# Altium footprint library IC_MCU.PcbLib: 10 footprints
Each footprint in its own frame and in the unit in brackets; x right, y up, seen from the top. Pads: shape width x height; smd on the part's side, far side on the other; paste and mask are expansions set on the pad; w line width, h text height; cw(c..) or ccw(c..) is an arc to the next point about the centre after c.
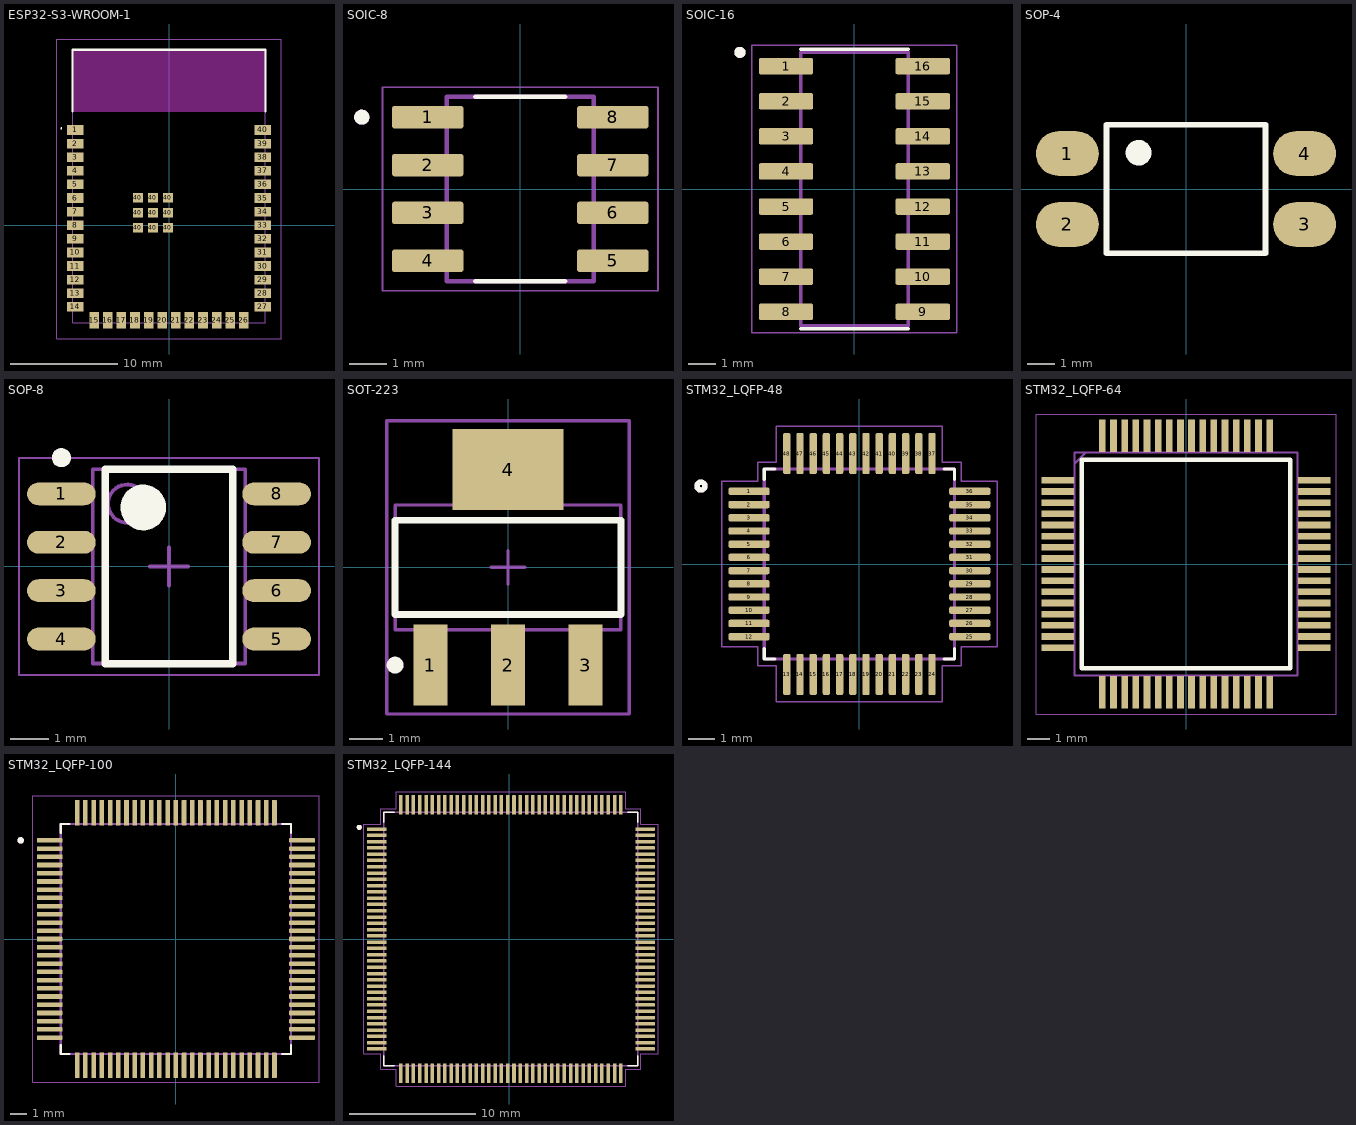
[diagram p0: the footprints below, top view; thin cyan lines are the x and y axes]

## ESP32-S3-WROOM-1 [mm]
pads (49):
  rect 1.5x0.9 smd: 1(-8.75,8.88) 2(-8.75,7.61) 3(-8.75,6.34) 4(-8.75,5.07) 5(-8.75,3.8) 6(-8.75,2.53) 7(-8.75,1.26) 8(-8.75,-0.01) 9(-8.75,-1.28) 10(-8.75,-2.55) 11(-8.75,-3.82) 12(-8.75,-5.09) 13(-8.75,-6.36) 14(-8.75,-7.63) 27(8.75,-7.63) 28(8.75,-6.36) 29(8.75,-5.09) 30(8.75,-3.82) 31(8.75,-2.55) 32(8.75,-1.28) 33(8.75,-0.01) 34(8.75,1.26) 35(8.75,2.53) 36(8.75,3.8) 37(8.75,5.07) 38(8.75,6.34) 39(8.75,7.61) 40(8.75,8.88)
  rect 0.9x1.5 smd: 15(-6.985,-8.88) 16(-5.715,-8.88) 17(-4.445,-8.88) 18(-3.175,-8.88) 19(-1.905,-8.88) 20(-0.635,-8.88) 21(0.635,-8.88) 22(1.905,-8.88) 23(3.175,-8.88) 24(4.445,-8.88) 25(5.715,-8.88) 26(6.985,-8.88)
  rect 0.9x0.9 smd: 40(-2.9,-0.24) 40(-2.9,1.16) 40(-2.9,2.56) 40(-1.5,-0.24) 40(-1.5,1.16) 40(-1.5,2.56) 40(-0.1,-0.24) 40(-0.1,1.16) 40(-0.1,2.56)
Top Layer keep-out:
  rectangle: -9.017,10.541 9.017,16.383
Top Overlay:
  lines w0.1: -10.1,9.02 cw(c-10.05,9.02) -10,9.02 cw(c-10.05,9.02) -10.1,9.02
  lines w0.2: -9,10.62 -9,16.37 9,16.37 9,10.62
Mechanical 13:
  lines w0.1: -10.5,-10.63 10.5,-10.63 10.5,17.37 -10.5,17.37 -10.5,-10.63 ; -9,-9.13 9,-9.13 9,16.37 -9,16.37 -9,-9.13
3D body "step_temp.STEP": height 3.25, standoff 0, extent -9,-9.13 9,16.37

## SOIC-8 [mm]
pads (8):
  rrect25% 1.9x0.6 smd: 1(-2.455,1.905) 2(-2.455,0.635) 3(-2.455,-0.635) 4(-2.455,-1.905) 5(2.455,-1.905) 6(2.455,-0.635) 7(2.455,0.635) 8(2.455,1.905)
Top Overlay:
  circle w0.2: c-4.205,1.905 r0.1
  lines w0.127: -1.185,-2.45 1.185,-2.45 ; -1.185,2.45 1.185,2.45
Mechanical 13:
  circle w0.2: c-4.205,1.905 r0.1
  lines w0.127: -1.95,-2.45 1.95,-2.45 1.95,2.45 -1.95,2.45 -1.95,-2.45
Mechanical 15:
  lines w0.05: -3.655,-2.7 -3.655,2.7 3.655,2.7 3.655,-2.7 -3.655,-2.7
3D body "step_temp.STEP": height 1.75, standoff 0, extent -3,-2.45 3,2.45

## SOIC-16 [mm]
pads (16):
  rrect25% 1.97x0.6 smd: 1(-2.475,4.445) 2(-2.475,3.175) 3(-2.475,1.905) 4(-2.475,0.635) 5(-2.475,-0.635) 6(-2.475,-1.905) 7(-2.475,-3.175) 8(-2.475,-4.445) 9(2.475,-4.445) 10(2.475,-3.175) 11(2.475,-1.905) 12(2.475,-0.635) 13(2.475,0.635) 14(2.475,1.905) 15(2.475,3.175) 16(2.475,4.445)
Top Overlay:
  circle w0.2: c-4.145,4.945 r0.1
  lines w0.127: -1.95,-5.065 1.95,-5.065 ; -1.95,5.065 1.95,5.065
Mechanical 13:
  circle w0.2: c-4.145,4.945 r0.1
  lines w0.127: -1.95,-4.95 1.95,-4.95 1.95,4.95 -1.95,4.95 -1.95,-4.95
Mechanical 15:
  lines w0.05: -3.71,-5.2 3.71,-5.2 3.71,5.2 -3.71,5.2 -3.71,-5.2
3D body "step_temp.STEP": height 1.75, standoff 0, extent -3,-4.95 3,4.95

## SOP-4 [mm]
pads (4):
  oval 2.25x1.6 smd: 1(-4.25,1.27) 2(-4.25,-1.27) 3(4.25,-1.27) 4(4.25,1.27)
Top Overlay:
  circle w0.2: c-1.7,1.3 r0.361
  region: -1.4,1.003 -2.006,1.003 -2.006,1.6 -1.4,1.6
  lines w0.2: -2.85,-2.3 -2.85,2.3 2.85,2.3 2.85,-2.3 -2.85,-2.3
3D body "pc817x1nip1b.stp": height 3.6, standoff 0, extent -4.673,-2.286 4.927,2.314

## SOP-8 [mm]
pads (8):
  oval 1.8x0.6 smd: 1(-2.825,1.905) 2(-2.825,0.635) 3(-2.825,-0.635) 4(-2.825,-1.905) 5(2.825,-1.905) 6(2.825,-0.635) 7(2.825,0.635) 8(2.825,1.905)
Top Overlay:
  circle w0.6: c-0.675,1.55 r0.3
  circle w0.25: c-2.825,2.855 r0.125
  lines w0.2: -1.675,-2.55 1.675,-2.55 1.675,2.55 -1.675,2.55 -1.675,-2.55
Mechanical 13:
  circle w0.1: c-1.1,1.65 r0.5
  lines w0.1: -2,-2.55 2,-2.55 2,2.55 -2,2.55 -2,-2.55
Mechanical 15:
  lines w0.05: -3.937,-2.85 3.937,-2.85 3.937,2.85 -3.937,2.85 -3.937,-2.85
  lines w0.1: -0.5,0 0.5,0 ; 0,-0.5 0,0.5
3D body "CircuitWorks-SO-8 (PIC12FXXX).step": height 1.6, standoff 0, extent -2.995,-2.45 2.995,2.45

## SOT-223 [mm]
pads (4):
  rect 1x2.4 smd: 1(-2.3,-2.9) 2(0,-2.9) 3(2.3,-2.9)
  rect 3.3x2.4 smd: 4(0,2.9)
Top Overlay:
  circle w0.25: c-3.35,-2.9 r0.125
  lines w0.2: -3.35,-1.4 3.35,-1.4 3.35,1.4 -3.35,1.4 -3.35,-1.4
Mechanical 13:
  lines w0.1: -3.35,-1.85 3.35,-1.85 3.35,1.85 -3.35,1.85 -3.35,-1.85
Mechanical 15:
  lines w0.1: -0.5,0 0.5,0 ; 0,-0.5 0,0.5 ; -3.6,-4.35 3.6,-4.35 3.6,4.35 -3.6,4.35 -3.6,-4.35
3D body "SW3DPS-SOT-223-DEFAULT.step": height 1.68, standoff 0, extent -3.25,-3.556 3.25,3.404

## STM32_LQFP-48 [mm]
pads (48):
  rrect50% 1.56x0.28 smd: 1(-4.18,2.75) 2(-4.18,2.25) 3(-4.18,1.75) 4(-4.18,1.25) 5(-4.18,0.75) 6(-4.18,0.25) 7(-4.18,-0.25) 8(-4.18,-0.75) 9(-4.18,-1.25) 10(-4.18,-1.75) 11(-4.18,-2.25) 12(-4.18,-2.75) 25(4.18,-2.75) 26(4.18,-2.25) 27(4.18,-1.75) 28(4.18,-1.25) 29(4.18,-0.75) 30(4.18,-0.25) 31(4.18,0.25) 32(4.18,0.75) 33(4.18,1.25) 34(4.18,1.75) 35(4.18,2.25) 36(4.18,2.75)
  rrect50% 0.28x1.56 smd: 13(-2.75,-4.18) 14(-2.25,-4.18) 15(-1.75,-4.18) 16(-1.25,-4.18) 17(-0.75,-4.18) 18(-0.25,-4.18) 19(0.25,-4.18) 20(0.75,-4.18) 21(1.25,-4.18) 22(1.75,-4.18) 23(2.25,-4.18) 24(2.75,-4.18) 37(2.75,4.18) 38(2.25,4.18) 39(1.75,4.18) 40(1.25,4.18) 41(0.75,4.18) 42(0.25,4.18) 43(-0.25,4.18) 44(-0.75,4.18) 45(-1.25,4.18) 46(-1.75,4.18) 47(-2.25,4.18) 48(-2.75,4.18)
Top Overlay:
  circle w0.2: c-6,2.95 r0.15
  lines w0.127: -3.6,-3.21 -3.6,-3.6 -3.21,-3.6 ; -3.6,3.21 -3.6,3.6 -3.21,3.6 ; 3.21,-3.6 3.6,-3.6 3.6,-3.21 ; 3.21,3.6 3.6,3.6 3.6,3.21
Mechanical 13:
  circle w0.2: c-6,2.95 r0.15
  lines w0.127: -3.6,-3.6 -3.6,3.6 3.6,3.6 3.6,-3.6 -3.6,-3.6
Mechanical 15:
  lines w0.05: -5.21,-3.14 -5.21,3.14 -3.85,3.14 -3.85,3.85 -3.14,3.85 -3.14,5.21 3.14,5.21 3.14,3.85 3.85,3.85 3.85,3.14 5.21,3.14 5.21,-3.14 3.85,-3.14 3.85,-3.85 3.14,-3.85 3.14,-5.21 -3.14,-5.21 -3.14,-3.85 -3.85,-3.85 -3.85,-3.14 -5.21,-3.14
3D body "step_temp.STEP": height 1.6, standoff 0, extent -4.5,-4.5 4.5,4.5

## STM32_LQFP-64 [mm]
pads (64):
  rect 1.45x0.3 smd: 1(-5.75,3.75) 2(-5.75,3.25) 3(-5.75,2.75) 4(-5.75,2.25) 5(-5.75,1.75) 6(-5.75,1.25) 7(-5.75,0.75) 8(-5.75,0.25) 9(-5.75,-0.25) 10(-5.75,-0.75) 11(-5.75,-1.25) 12(-5.75,-1.75) 13(-5.75,-2.25) 14(-5.75,-2.75) 15(-5.75,-3.25) 16(-5.75,-3.75) 33(5.75,-3.75) 34(5.75,-3.25) 35(5.75,-2.75) 36(5.75,-2.25) 37(5.75,-1.75) 38(5.75,-1.25) 39(5.75,-0.75) 40(5.75,-0.25) 41(5.75,0.25) 42(5.75,0.75) 43(5.75,1.25) 44(5.75,1.75) 45(5.75,2.25) 46(5.75,2.75) 47(5.75,3.25) 48(5.75,3.75)
  rect 0.3x1.45 smd: 17(-3.75,-5.75) 18(-3.25,-5.75) 19(-2.75,-5.75) 20(-2.25,-5.75) 21(-1.75,-5.75) 22(-1.25,-5.75) 23(-0.75,-5.75) 24(-0.25,-5.75) 25(0.25,-5.75) 26(0.75,-5.75) 27(1.25,-5.75) 28(1.75,-5.75) 29(2.25,-5.75) 30(2.75,-5.75) 31(3.25,-5.75) 32(3.75,-5.75) 49(3.75,5.75) 50(3.25,5.75) 51(2.75,5.75) 52(2.25,5.75) 53(1.75,5.75) 54(1.25,5.75) 55(0.75,5.75) 56(0.25,5.75) 57(-0.25,5.75) 58(-0.75,5.75) 59(-1.25,5.75) 60(-1.75,5.75) 61(-2.25,5.75) 62(-2.75,5.75) 63(-3.25,5.75) 64(-3.75,5.75)
Top Overlay:
  lines w0.2: -4.675,-4.675 -4.675,4.675 4.675,4.675 4.675,-4.675 -4.675,-4.675
Mechanical 13:
  lines w0.05: -6.725,-6.725 -6.725,6.725 6.725,6.725 6.725,-6.725 -6.725,-6.725
  lines w0.1: -5,4.5 -4.5,5 ; -5,-5 -5,5 5,5 5,-5 -5,-5
3D body "step_temp.STEP": height 1.61, standoff 0.01, extent -6,-6 6,6

## STM32_LQFP-100 [mm]
pads (100):
  rrect25% 1.56x0.28 smd: 1(-7.68,6) 2(-7.68,5.5) 3(-7.68,5) 4(-7.68,4.5) 5(-7.68,4) 6(-7.68,3.5) 7(-7.68,3) 8(-7.68,2.5) 9(-7.68,2) 10(-7.68,1.5) 11(-7.68,1) 12(-7.68,0.5) 13(-7.68,0) 14(-7.68,-0.5) 15(-7.68,-1) 16(-7.68,-1.5) 17(-7.68,-2) 18(-7.68,-2.5) 19(-7.68,-3) 20(-7.68,-3.5) 21(-7.68,-4) 22(-7.68,-4.5) 23(-7.68,-5) 24(-7.68,-5.5) 25(-7.68,-6) 51(7.68,-6) 52(7.68,-5.5) 53(7.68,-5) 54(7.68,-4.5) 55(7.68,-4) 56(7.68,-3.5) 57(7.68,-3) 58(7.68,-2.5) 59(7.68,-2) 60(7.68,-1.5) 61(7.68,-1) 62(7.68,-0.5) 63(7.68,0) 64(7.68,0.5) 65(7.68,1) 66(7.68,1.5) 67(7.68,2) 68(7.68,2.5) 69(7.68,3) 70(7.68,3.5) 71(7.68,4) 72(7.68,4.5) 73(7.68,5) 74(7.68,5.5) 75(7.68,6)
  rrect25% 0.28x1.56 smd: 26(-6,-7.68) 27(-5.5,-7.68) 28(-5,-7.68) 29(-4.5,-7.68) 30(-4,-7.68) 31(-3.5,-7.68) 32(-3,-7.68) 33(-2.5,-7.68) 34(-2,-7.68) 35(-1.5,-7.68) 36(-1,-7.68) 37(-0.5,-7.68) 38(0,-7.68) 39(0.5,-7.68) 40(1,-7.68) 41(1.5,-7.68) 42(2,-7.68) 43(2.5,-7.68) 44(3,-7.68) 45(3.5,-7.68) 46(4,-7.68) 47(4.5,-7.68) 48(5,-7.68) 49(5.5,-7.68) 50(6,-7.68) 76(6,7.68) 77(5.5,7.68) 78(5,7.68) 79(4.5,7.68) 80(4,7.68) 81(3.5,7.68) 82(3,7.68) 83(2.5,7.68) 84(2,7.68) 85(1.5,7.68) 86(1,7.68) 87(0.5,7.68) 88(0,7.68) 89(-0.5,7.68) 90(-1,7.68) 91(-1.5,7.68) 92(-2,7.68) 93(-2.5,7.68) 94(-3,7.68) 95(-3.5,7.68) 96(-4,7.68) 97(-4.5,7.68) 98(-5,7.68) 99(-5.5,7.68) 100(-6,7.68)
Top Overlay:
  circle w0.2: c-9.44,6 r0.1
  lines w0.127: -7,-6.46 -7,-7 -6.46,-7 ; -7,6.46 -7,7 -6.46,7 ; 6.46,-7 7,-7 7,-6.46 ; 6.46,7 7,7 7,6.46
Mechanical 13:
  circle w0.2: c-9.44,6 r0.1
  lines w0.127: -7,-7 -7,7 7,7 7,-7 -7,-7
Mechanical 15:
  lines w0.05: -8.71,-8.71 -8.71,8.71 8.71,8.71 8.71,-8.71 -8.71,-8.71
3D body "step_temp.STEP": height 1.6, standoff 0, extent -8,-8 8,8

## STM32_LQFP-144 [mm]
pads (144):
  rrect25% 1.56x0.28 smd: 1(-10.553,8.75) 2(-10.553,8.25) 3(-10.553,7.75) 4(-10.553,7.25) 5(-10.553,6.75) 6(-10.553,6.25) 7(-10.553,5.75) 8(-10.553,5.25) 9(-10.553,4.75) 10(-10.553,4.25) 11(-10.553,3.75) 12(-10.553,3.25) 13(-10.553,2.75) 14(-10.553,2.25) 15(-10.553,1.75) 16(-10.553,1.25) 17(-10.553,0.75) 18(-10.553,0.25) 19(-10.553,-0.25) 20(-10.553,-0.75) 21(-10.553,-1.25) 22(-10.553,-1.75) 23(-10.553,-2.25) 24(-10.553,-2.75) 25(-10.553,-3.25) 26(-10.553,-3.75) 27(-10.553,-4.25) 28(-10.553,-4.75) 29(-10.553,-5.25) 30(-10.553,-5.75) 31(-10.553,-6.25) 32(-10.553,-6.75) 33(-10.553,-7.25) 34(-10.553,-7.75) 35(-10.553,-8.25) 36(-10.553,-8.75) 73(10.807,-8.75) 74(10.807,-8.25) 75(10.807,-7.75) 76(10.807,-7.25) 77(10.807,-6.75) 78(10.807,-6.25) 79(10.807,-5.75) 80(10.807,-5.25) 81(10.807,-4.75) 82(10.807,-4.25) 83(10.807,-3.75) 84(10.807,-3.25) 85(10.807,-2.75) 86(10.807,-2.25) 87(10.807,-1.75) 88(10.807,-1.25) 89(10.807,-0.75) 90(10.807,-0.25) 91(10.807,0.25) 92(10.807,0.75) 93(10.807,1.25) 94(10.807,1.75) 95(10.807,2.25) 96(10.807,2.75) 97(10.807,3.25) 98(10.807,3.75) 99(10.807,4.25) 100(10.807,4.75) 101(10.807,5.25) 102(10.807,5.75) 103(10.807,6.25) 104(10.807,6.75) 105(10.807,7.25) 106(10.807,7.75) 107(10.807,8.25) 108(10.807,8.75)
  rrect25% 0.28x1.56 smd: 37(-8.623,-10.68) 38(-8.123,-10.68) 39(-7.623,-10.68) 40(-7.123,-10.68) 41(-6.623,-10.68) 42(-6.123,-10.68) 43(-5.623,-10.68) 44(-5.123,-10.68) 45(-4.623,-10.68) 46(-4.123,-10.68) 47(-3.623,-10.68) 48(-3.123,-10.68) 49(-2.623,-10.68) 50(-2.123,-10.68) 51(-1.623,-10.68) 52(-1.123,-10.68) 53(-0.623,-10.68) 54(-0.123,-10.68) 55(0.377,-10.68) 56(0.877,-10.68) 57(1.377,-10.68) 58(1.877,-10.68) 59(2.377,-10.68) 60(2.877,-10.68) 61(3.377,-10.68) 62(3.877,-10.68) 63(4.377,-10.68) 64(4.877,-10.68) 65(5.377,-10.68) 66(5.877,-10.68) 67(6.377,-10.68) 68(6.877,-10.68) 69(7.377,-10.68) 70(7.877,-10.68) 71(8.377,-10.68) 72(8.877,-10.68) 109(8.877,10.68) 110(8.377,10.68) 111(7.877,10.68) 112(7.377,10.68) 113(6.877,10.68) 114(6.377,10.68) 115(5.877,10.68) 116(5.377,10.68) 117(4.877,10.68) 118(4.377,10.68) 119(3.877,10.68) 120(3.377,10.68) 121(2.877,10.68) 122(2.377,10.68) 123(1.877,10.68) 124(1.377,10.68) 125(0.877,10.68) 126(0.377,10.68) 127(-0.123,10.68) 128(-0.623,10.68) 129(-1.123,10.68) 130(-1.623,10.68) 131(-2.123,10.68) 132(-2.623,10.68) 133(-3.123,10.68) 134(-3.623,10.68) 135(-4.123,10.68) 136(-4.623,10.68) 137(-5.123,10.68) 138(-5.623,10.68) 139(-6.123,10.68) 140(-6.623,10.68) 141(-7.123,10.68) 142(-7.623,10.68) 143(-8.123,10.68) 144(-8.623,10.68)
Top Overlay:
  circle w0.2: c-11.938,8.89 r0.1
  lines w0.127: -9.973,-9.3 -9.973,-10.1 -9.173,-10.1 ; -9.973,9.3 -9.973,10.1 -9.173,10.1 ; 9.427,-10.1 10.227,-10.1 10.227,-9.3 ; 9.427,10.1 10.227,10.1 10.227,9.3
Mechanical 13:
  circle w0.2: c-11.938,8.89 r0.1
  lines w0.127: -9.973,-10.1 10.227,-10.1 10.227,10.1 -9.973,10.1 -9.973,-10.1
Mechanical 15:
  lines w0.05: -11.583,-9.14 -11.583,9.14 -10.223,9.14 -10.223,10.35 -9.013,10.35 -9.013,11.71 9.267,11.71 9.267,10.35 10.477,10.35 10.477,9.14 11.837,9.14 11.837,-9.14 10.477,-9.14 10.477,-10.35 9.267,-10.35 9.267,-11.71 -9.013,-11.71 -9.013,-10.35 -10.223,-10.35 -10.223,-9.14 -11.583,-9.14
3D body "step_temp.STEP": height 1.6, standoff 0, extent -10.873,-11 11.127,11